# Altium schematic symbol library Resistors.SchLib: 9 symbols
Pins are listed as number, name and electrical type; pins without a type are passive.

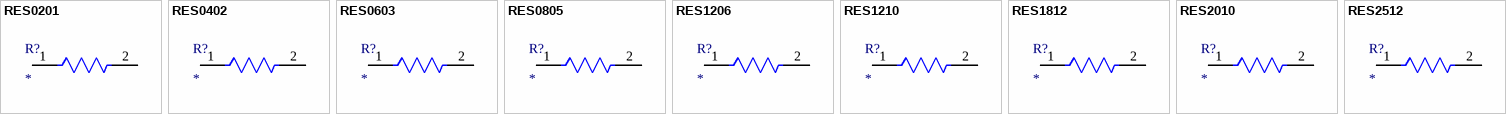
[diagram p0: symbols RES0201 to RES2512]

## RES0201
designator R?
Resistor 0201 (0.6x0.3mm)
footprint RESC0201 (Resistor 0201 (0.6x0.3mm))
pins: 1, 2

## RES0402
designator R?
Resistor 0402 (1.0x0.5mm)
footprint RESC0402 (Resistor 0402 (1.0x0.5mm))
pins: 1, 2

## RES0603
designator R?
Resistor 0603 (1.5x0.8mm)
footprint RESC0603 (Resistor 0603 (1.5x0.8mm))
pins: 1, 2

## RES0805
designator R?
Resistor 0805 (2.0x1.3mm)
footprint RESC0805 (Resistor 0805 (2.0x1.3mm))
pins: 1, 2

## RES1206
designator R?
Resistor 1206 (3.0x1.5mm)
footprint RESC1206 (Resistor 1206 (3.0x1.5mm))
pins: 1, 2

## RES1210
designator R?
Resistor 1210 (3.2x2.6mm)
footprint RESC1210 (Resistor 1210 (3.2x2.6mm))
pins: 1, 2

## RES1812
designator R?
Resistor 1812 (4.6x3.0mm)
footprint RESC1812 (Resistor 1812 (4.6x3.0mm))
pins: 1, 2

## RES2010
designator R?
Resistor 2010 (5.0x2.6mm)
footprint RESC2010 (Resistor 2010 (5.0x2.6mm))
pins: 1, 2

## RES2512
designator R?
Resistor 2512 (6.3x3.1mm)
footprint RESC2512 (Resistor 2512 (6.3x3.1mm))
pins: 1, 2